# EAGLE library part DRV8835 (library EE445L)
DRV8835 DUAL LOW VOLTAGE H-BRIDGE IC The DRV8835 provides an integrated motor driver solution for cameras, consumer products, toys, and other low-voltage or battery-powered motion control applications. The device has two H-bridge drivers, and can drive two DC motors or one stepper motor, as well as other devices like solenoids. The output driver block for each consists of N-channel power MOSFET’s configured as an H-bridge to drive the motor Vs (Max) 11 (V) # of Full Bridges 2 RDS(ON) (HS + LS) 305 (mOhms) RMS Output Current 1.5 (A) Peak Output Current 1.5 (A) Current Regulation Levels 0 Control I/F PWM or PH/EN Pin/Package 12WSON
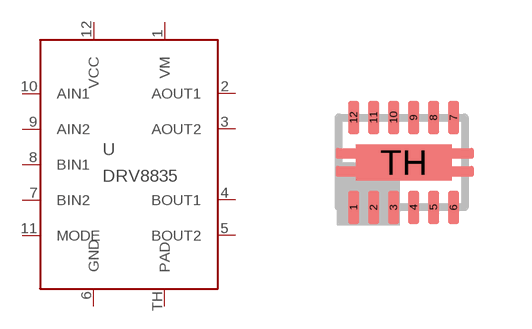
[diagram p33: symbol with the pads of R-PWSON-N12; footprint R-PWSON-N12]

Designator prefix -

## DRV8835  [R-PWSON-N12]
1  VM  pwr
2  AOUT1  out
3  AOUT2  out
4  BOUT1  out
5  BOUT2  out
6  GND  pwr
7  BIN2  in
8  BIN1  pas
9  AIN2  in
10  AIN1  in
11  MODE  in
12  VCC  pwr
TH  PAD  pwr

## Footprint R-PWSON-N12 (pad centres in mm)
R-PWSON-N12 DSS plastic small outline no-lead Used in DRV8835 motor driver
smd 0.28 x 0.85: 1 -1.2,-1.375; 2 -0.7,-1.375; 3 -0.2,-1.375; 4 0.3,-1.375; 5 0.8,-1.375; 6 1.3,-1.375; 7 1.3,0.875; 8 0.8,0.875; 9 0.3,0.875; 10 -0.2,0.875; 11 -0.7,0.875; 12 -1.2,0.875
smd 2.4 x 0.9: TH 0.05,-0.25